# Altium schematic symbol library EJ508B.SchLib: 1 symbol
Pins are listed as number, name and electrical type; pins without a type are passive.

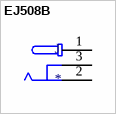
[diagram p0: symbol EJ508B]

## EJ508B
designator J
Power Barrel Connector Jack 2.50mm ID (0.098), 5.50mm OD (0.217) Through Hole, Right Angle; MP: EJ508B; MF: MPD; DigiKey-Purchase-URL: https://snapeda.com/shop?store=DigiKey&id=378438; SnapEDA_Link: https://www.snapeda.com/parts/EJ508B/MPD%20(Memory%20Protection%20Devices)/view-part/378438/?ref=snap; Availability: Unavailable; Price: None; Value: *; Package: Non-Standard MPD
footprint MPD_EJ508B
pins: 1, 2, 3